# Altium footprint library 2512_Chip_Resistor.PcbLib: 1 footprints
Each footprint in its own frame and in the unit in brackets; x right, y up, seen from the top. Pads: shape width x height; smd on the part's side, far side on the other; paste and mask are expansions set on the pad; w line width, h text height; cw(c..) or ccw(c..) is an arc to the next point about the centre after c.
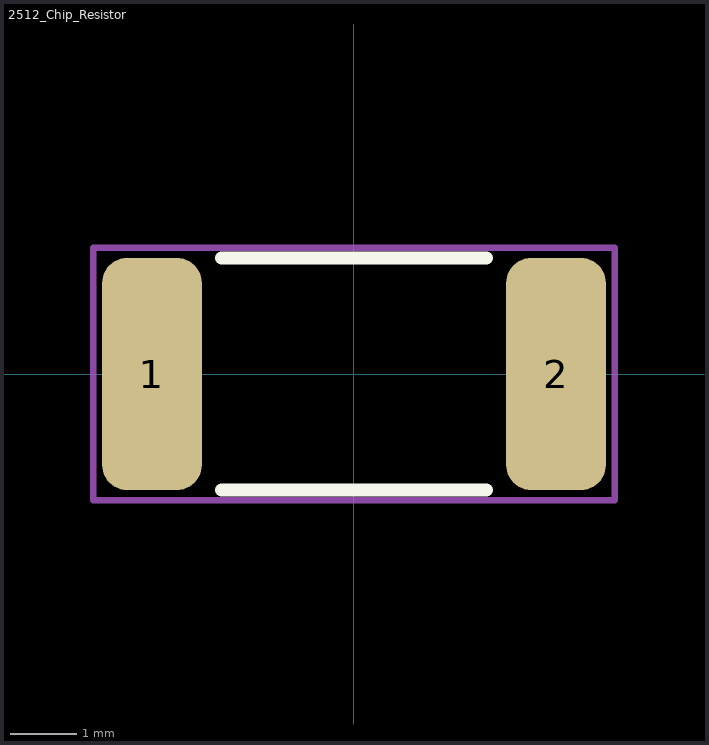
[diagram p0: the footprint, top view; thin cyan lines are the x and y axes]

## 2512_Chip_Resistor [mm]
pads (2):
  rrect50% 1.505x3.506 smd: 1(-3.051,0) 2(3.051,0)
Top Overlay:
  lines w0.2: -1.998,-1.753 1.998,-1.753 ; -1.998,1.753 1.998,1.753
Mechanical 1:
  lines w0.1: -3.937,-1.905 3.937,-1.905 3.937,1.905 -3.937,1.905 -3.937,-1.905
  text ".Designator" at 0,0.188 h1
Top Courtyard:
  text "+" at -0.666,-1 h2
3D body "Res_Bourns_CR2512-JW-823ELF_eec.STEP": height 0.7, standoff 0, extent -3.15,-1.6 3.15,1.6